# EAGLE library part PL611-01 (library micrel)
PROGRAMMABLE CLOCK
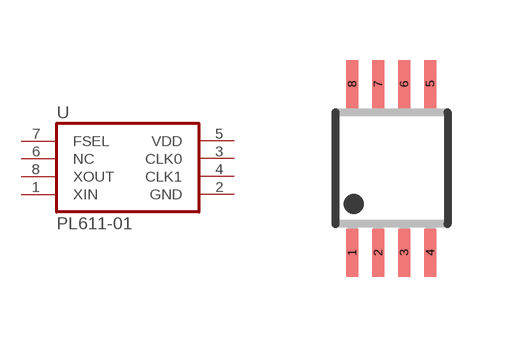
[diagram p17: symbol with the pads of MSOP08; footprint MSOP08]

Designator prefix U

## PL611-01  [MSOP08]
1  XIN  in
2  GND  pwr
3  CLK0  out
4  CLK1  out
5  VDD  pwr
6  NC  nc
7  FSEL  in
8  XOUT  out

## Footprint MSOP08 (pad centres in mm)
Mini Small Outline Package
smd 0.3 x 1.2: 1 -0.976,-2.113; 2 -0.326,-2.113; 3 0.324,-2.113; 4 0.974,-2.113; 5 0.974,2.112; 6 0.324,2.112; 7 -0.326,2.112; 8 -0.976,2.112